# EAGLE library part ADUM1400 (library Radicon)
ADUM1400 4 ch. digital isolator
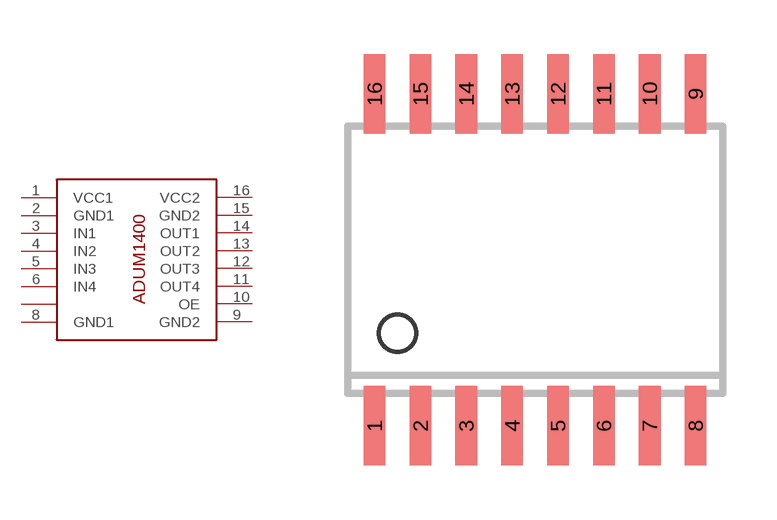
[diagram p0: symbol with the pads of SO16W; footprint SO16W]

Designator prefix IC

## ADUM1400  [SO16W]
1  VCC1
2  GND1
3  IN1
4  IN2
5  IN3
6  IN4
7  NC  nc
8  GND1
9  GND2
10  OE  in
11  OUT4
12  OUT3
13  OUT2
14  OUT1
15  GND2
16  VCC2

## Footprint SO16W (pad centres in mm)
SMALL OUTLINE INTEGRATED CIRCUIT wide body 7.5 mm/JEDEC MS-013AA
smd 0.6 x 2.2: 1 -4.445,-4.6; 2 -3.175,-4.6; 3 -1.905,-4.6; 4 -0.635,-4.6; 5 0.635,-4.6; 6 1.905,-4.6; 7 3.175,-4.6; 8 4.445,-4.6; 9 4.445,4.6; 10 3.175,4.6; 11 1.905,4.6; 12 0.635,4.6; 13 -0.635,4.6; 14 -1.905,4.6; 15 -3.175,4.6; 16 -4.445,4.6